# EAGLE library part DS1077L (library Strutz Electronic Industries)
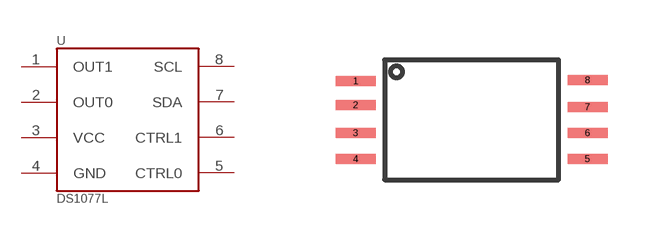
[diagram p53: symbol with the pads of TSSOP-8; footprint TSSOP-8]

Designator prefix -

## DS1077L  [TSSOP-8]
1  OUT1
2  OUT0
3  VCC
4  GND
5  CTRL0
6  CTRL1
7  SDA
8  SCL

## Footprint TSSOP-8 (pad centres in mm)
smd 1 x 0.25: 1 -2.9,0.975; 2 -2.9,0.375; 3 -2.9,-0.325; 4 -2.9,-0.975; 5 2.9,-0.975; 6 2.9,-0.325; 7 2.9,0.325; 8 2.9,1